# Altium footprint library SparkFun-Boards.PCBLIB: 71 footprints (part 1 of 5)
Each footprint in its own frame and in the unit in brackets; x right, y up, seen from the top. Pads: shape width x height; smd on the part's side, far side on the other; paste and mask are expansions set on the pad; w line width, h text height; cw(c..) or ccw(c..) is an arc to the next point about the centre after c.
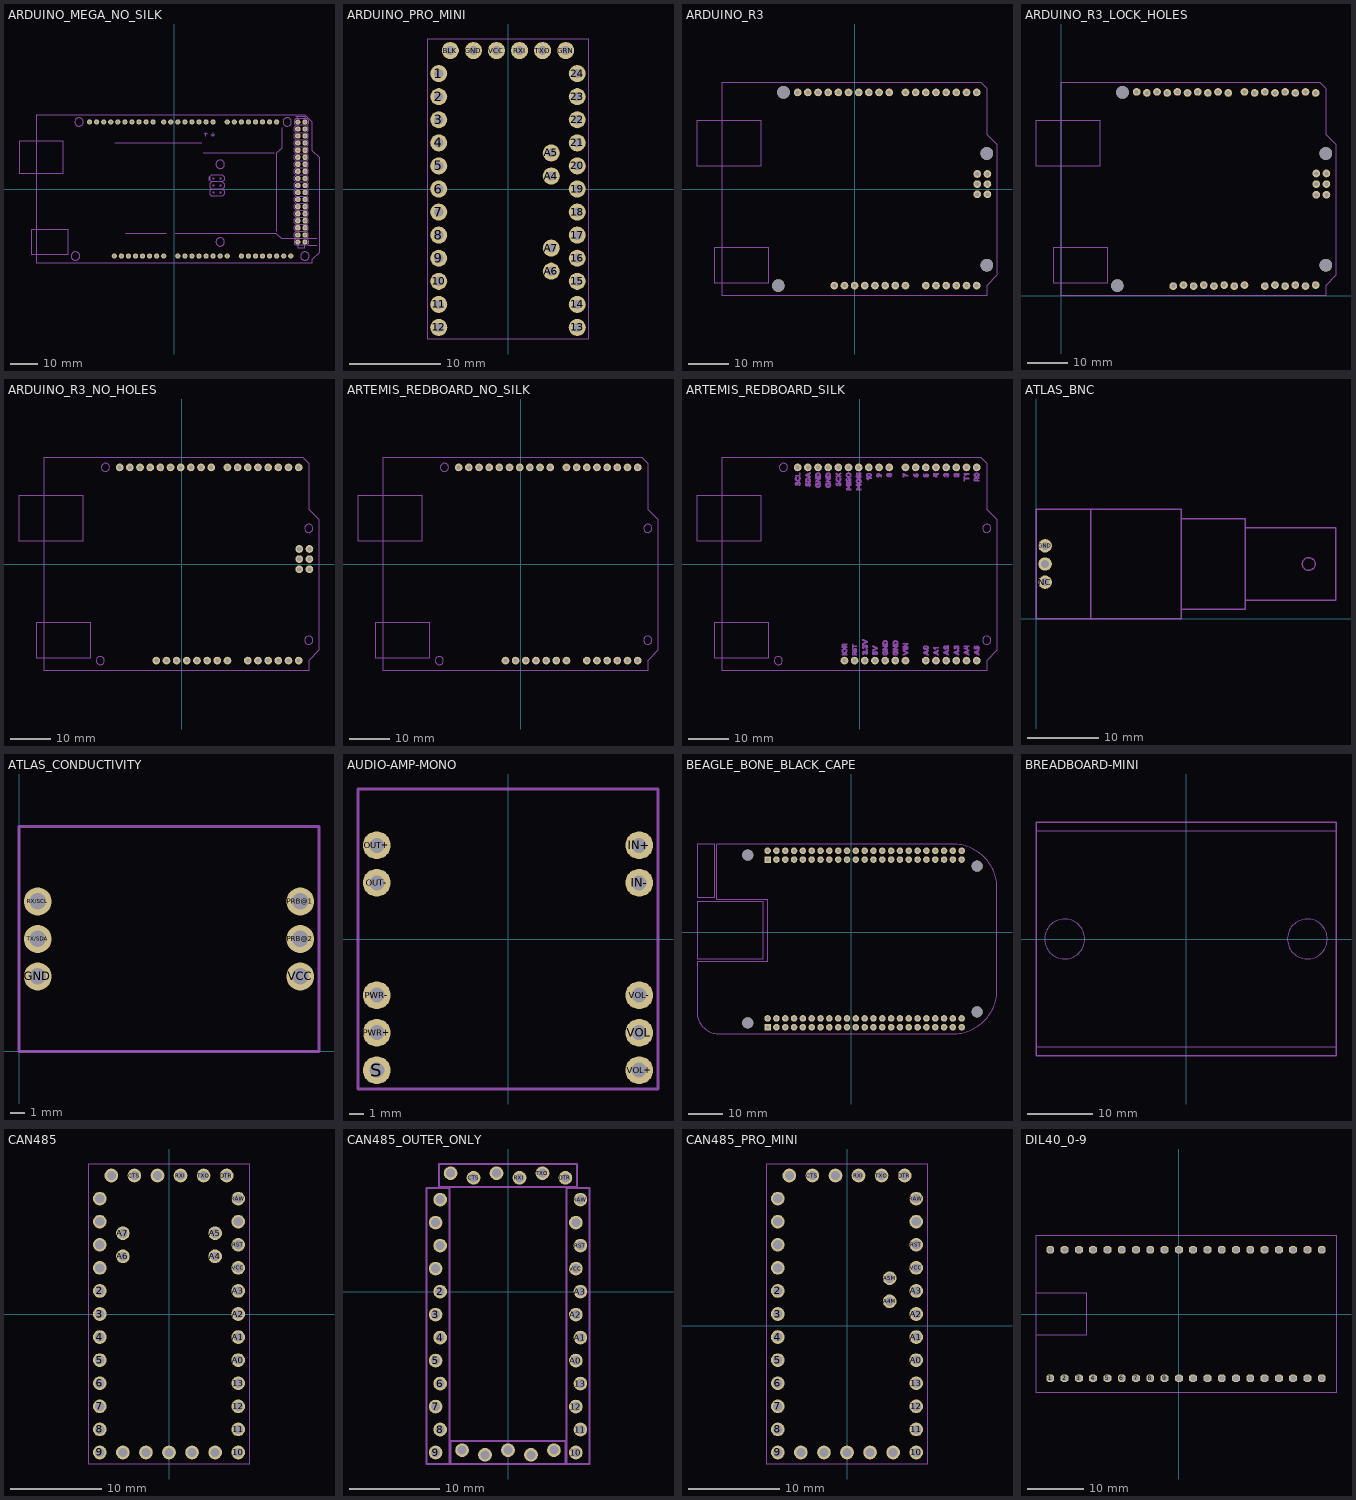
[diagram p0: the footprints below, top view; thin cyan lines are the x and y axes]

## ARDUINO_MEGA_NO_SILK [mil]
pads (86):
  round 74 hole 40: 0(550,950) 1(450,950) 2(350,950) 3(250,950) 3.3V(-550,-950) 4(150,950) 5(50,950) 5V(-450,-950) 5V@1(1750,950) 5V@2(1850,950) 6(-50,950) 7(-150,950) 8(-300,950) 9(-400,950) 10(-500,950) 11(-600,950) 12(-700,950) 13(-800,950) 14(750,950) 15(850,950) 16(950,950) 17(1050,950) 18(1150,950) 19(1250,950) 20(1350,950) 21(1450,950) A0(50,-950) A1(150,-950) A2(250,-950) A3(350,-950) A4(450,-950) A5(550,-950) A6(650,-950) A7(750,-950) A8(950,-950) A9(1050,-950) A10(1150,-950) A11(1250,-950) A12(1350,-950) A13(1450,-950) A14(1550,-950) A15(1650,-950) AREF(-1000,950) GND(-350,-950) GND@1(-250,-950) GND@2(1750,-750) GND@3(1850,-750) GND@4(-900,950) IOREF(-750,-950) NC(-850,-950) RESET(-650,-950) SCL(-1200,950) SDA(-1100,950) VIN(-150,-950)
  oct 74x74 / inner round 68.37 / far side oct 74x74 hole 40: 22(1750,850) 23(1850,850) 24(1750,750) 25(1850,750) 26(1750,650) 27(1850,650) 28(1750,550) 29(1850,550) 30(1750,450) 31(1850,450) 32(1750,350) 33(1850,350) 34(1750,250) 35(1850,250) 36(1750,150) 37(1850,150) 38(1750,50) 39(1850,50) 40(1750,-50) 41(1850,-50) 42(1750,-150) 43(1850,-150) 44(1750,-250) 45(1850,-250) 46(1750,-350) 47(1850,-350) 48(1750,-450) 49(1850,-450) 50(1750,-550) 51(1850,-550) 52(1750,-650) 53(1850,-650)
tDocu:
  drawing of 288 lines, arcs and shapes, not listed
  text "0" at 565,830 h47.6
  text "1" at 465,830 h47.6
  text "2" at 365,830 h47.6
  text "3" at 265,830 h47.6
  text "4" at 165,830 h47.6
  text "5" at 65,830 h47.6
  text "6" at -35,830 h47.6
  text "7" at -135,830 h47.6
  text "8" at -275,830 h47.6
  text "9" at -375,830 h47.6
  text "10" at -475,780 h47.6
  text "11" at -575,780 h47.6
  text "12" at -675,780 h47.6
  text "13" at -775,780 h47.6
  text "14" at 765,795 h47.6
  text "15" at 865,795 h47.6
  text "16" at 965,795 h47.6
  text "17" at 1065,795 h47.6
  text "18" at 1165,795 h47.6
  text "19" at 1265,795 h47.6
  text "20" at 1365,795 h47.6
  text "21" at 1465,795 h47.6
  text "22" at 1581,820 h47.6
  text "24" at 1581,720 h47.6
  text "26" at 1581,620 h47.6
  text "28" at 1581,520 h47.6
  text "30" at 1581,420 h47.6
  text "32" at 1581,320 h47.6
  text "34" at 1581,220 h47.6
  text "36" at 1581,120 h47.6
  text "38" at 1581,20 h47.6
  text "40" at 1581,-80 h47.6
  text "42" at 1581,-180 h47.6
  text "44" at 1581,-280 h47.6
  text "46" at 1581,-380 h47.6
  text "SO" at 1581,-580 h47.6
  text "48" at 1581,-480 h47.6
  text "CK" at 1581,-680 h47.6
  text "31" at 1925,421 h47.6
  text "33" at 1925,321 h47.6
  text "35" at 1925,221 h47.6
  text "37" at 1925,121 h47.6
  text "39" at 1925,21 h47.6
  text "41" at 1925,-79 h47.6
  text "43" at 1925,-179 h47.6
  text "45" at 1925,-279 h47.6
  text "47" at 1925,-379 h47.6
  text "49" at 1925,-479 h47.6
  text "SI" at 1925,-579 h47.6
  text "!CS" at 1925,-679 h47.6
  text "A0" at 80,-869 h47.6
  text "A1" at 170,-869 h47.6
  text "A2" at 280,-869 h47.6
  text "A3" at 380,-869 h47.6
  text "A4" at 480,-869 h47.6
  text "A5" at 575,-869 h47.6
  text "6" at 675,-869 h47.6
  text "A7" at 780,-869 h47.6
  text "A8" at 980,-869 h47.6
  text "A9" at 1080,-869 h47.6
  text "A10" at 1180,-869 h47.6
  text "A11" at 1280,-869 h47.6
  text "A12" at 1380,-869 h47.6
  text "A13" at 1480,-869 h47.6
  text "A14" at 1580,-869 h47.6
  text "A15" at 1675,-869 h47.6
  text "ANALOG IN" at 60,-730 h51
  text "COMMUNICATION" at 430,535 h51
  text "DIGITAL" at 1535,-590 h51
  text "GND" at 1925,-779 h34
  text "TX0" at 465,630 h34
  text "RX0" at 565,630 h34
  text "PWM" at -800,675 h51
  text "TX3" at 765,630 h34
  text "RX3" at 865,630 h34
  text "TX2" at 965,630 h34
  text "RX2" at 1065,630 h34
  text "TX1" at 1165,630 h34
  text "RX1" at 1265,630 h34
  text "SDA" at 1365,630 h34
  text "SCL" at 1465,630 h34
  text "POWER" at -390,-730 h51
  text "RESET" at -630,-869 h34
  text "5V" at -530,-869 h34
  text "5V" at -430,-869 h34
  text "GND" at -330,-869 h34
  text "GND" at -230,-869 h34
  text "Vin" at -130,-869 h34
  text "GND" at -930,880 h47.6
  text "AREF" at -1025,880 h47.6
  text "5V" at 1650,1000 h29.75

## ARDUINO_PRO_MINI [mil]
pads (34):
  round 74 hole 40: 1(-300,500) 2(-300,400) 3(-300,300) 4(-300,200) 5(-300,100) 6(-300,0) 7(-300,-100) 8(-300,-200) 9(-300,-300) 10(-300,-400) 11(-300,-500) 12(-300,-600) 13(300,-600) 14(300,-500) 15(300,-400) 16(300,-300) 17(300,-200) 18(300,-100) 19(300,0) 20(300,100) 21(300,200) 22(300,300) 23(300,400) 24(300,500) A4(187.5,56.25) A5(187.5,156.25) A6(187.5,-356.25) A7(187.5,-256.25) BLK(-250,600) GND(-150,600) GRN(250,600) RXI(50,600) TXO(150,600) VCC(-50,600)
tDocu:
  lines w5: -350,-650 -350,650 350,650 350,-650 -350,-650

## ARDUINO_R3 [mil]
pads (42):
  round 76 hole 40: 3.3V(100,-950) 5V(200,-950) A0(700,-950) A1(800,-950) A2(900,-950) A3(1000,-950) A4(1100,-950) A5(1200,-950) AREF(-360,950) D0(1200,950) D1(1100,950) D2(1000,950) D3(900,950) D4(800,950) D5(700,950) D6(600,950) D7(500,950) D8(340,950) D9(240,950) D10(140,950) D11(40,950) D12(-60,950) D13(-160,950) GND@1(300,-950) GND@2(400,-950) GND@3(-260,950) GND@4(1305.51,-51.97) IOREF(-100,-950) MISO(1205.51,148.03) MOSI(1305.51,48.03) NC(-200,-950) RESET@1(0,-950) RESET@2(1205.51,-51.97) SCK(1205.51,48.03) SCL(-560,950) SDA(-460,950) VCC(1305.51,148.03) VIN(500,-950)
  round 125 hole 125 unplated: MH1(-700,950) MH2(1300,350) MH3(1300,-750) MH4(-750,-950)
tDocu:
  lines w8: -1550,225 -925,225 -925,675 -1550,675 -1550,225 ; -1375,-925 -1375,-575 -850,-575 -850,-925 -1375,-925 ; -1300,-1050 -1300,1050 1240,1050 1300,990 1300,540 1400,440 1400,-850 1300,-950 1300,-1050 -1300,-1050
  text "SCL" at -560,900 h27.2
  text "SDA" at -460,900 h27.2
  text "AREF" at -360,900 h27.2
  text "GND" at -260,900 h27.2
  text "D13" at -160,900 h27.2
  text "D12" at -60,900 h27.2
  text "D11" at 40,900 h27.2
  text "D10" at 140,900 h27.2
  text "D9" at 240,900 h27.2
  text "D8" at 340,900 h27.2
  text "D7" at 500,900 h27.2
  text "D6" at 600,900 h27.2
  text "D5" at 700,900 h27.2
  text "D4" at 800,900 h27.2
  text "D3" at 900,900 h27.2
  text "D2" at 1000,900 h27.2
  text "D0/RXI" at 1200,900 h27.2
  text "D1/TXO" at 1100,900 h27.2
  text "!RESET!" at 0,-900 h27.2
  text "3.3V" at 100,-900 h27.2
  text "5V" at 200,-900 h27.2
  text "GND" at 300,-900 h27.2
  text "GND" at 400,-900 h27.2
  text "VIN" at 500,-900 h27.2
  text "A0" at 700,-900 h27.2
  text "A1" at 800,-900 h27.2
  text "A2" at 900,-900 h27.2
  text "A3" at 1000,-900 h27.2
  text "A4" at 1100,-900 h27.2
  text "A5" at 1200,-900 h27.2
  text "IOREF" at -100,-900 h27.2
  text "MISO" at 1150,150 h27.2
  text "SCK" at 1150,50 h27.2
  text "RST" at 1150,-50 h27.2
  text "GND" at 1350,-50 h27.2
  text "MOSI" at 1350,50 h27.2
  text "5V" at 1350,150 h27.2

## ARDUINO_R3_LOCK_HOLES [mil]
pads (42):
  round 76 hole 40: 3.3V(1400,105) 5V(1500,95) A0(2000,95) A1(2100,105) A2(2200,95) A3(2300,105) A4(2400,95) A5(2500,105) AREF(940,2005) D0(2500,1995) D1(2400,2005) D2(2300,1995) D3(2200,2005) D4(2100,1995) D5(2000,2005) D6(1900,1995) D7(1800,2005) D8(1640,1995) D9(1540,2005) D10(1440,1995) D11(1340,2005) D12(1240,1995) D13(1140,2005) GND@1(1600,105) GND@2(1700,95) GND@3(1040,1995) GND@4(2605.51,993.03) IOREF(1200,105) MISO(2505.51,1203.03) MOSI(2605.51,1098.03) NC(1100,95) RESET@1(1300,95) RESET@2(2505.51,993.03) SCK(2505.51,1098.03) SCL(740,2005) SDA(840,1995) VCC(2605.51,1203.03) VIN(1800,105)
  round 125 hole 125 unplated: MH1(600,2000) MH2(2600,1400) MH3(2600,300) MH4(550,100)
tDocu:
  lines w8: -250,1275 375,1275 375,1725 -250,1725 -250,1275 ; -75,125 -75,475 450,475 450,125 -75,125 ; 0,0 0,2100 2540,2100 2600,2040 2600,1590 2700,1490 2700,200 2600,100 2600,0 0,0
  text "SCL" at 740,1950 h27.2
  text "SDA" at 840,1950 h27.2
  text "AREF" at 940,1950 h27.2
  text "GND" at 1040,1950 h27.2
  text "D13" at 1140,1950 h27.2
  text "D12" at 1240,1950 h27.2
  text "D11" at 1340,1950 h27.2
  text "D10" at 1440,1950 h27.2
  text "D9" at 1540,1950 h27.2
  text "D8" at 1640,1950 h27.2
  text "D7" at 1800,1950 h27.2
  text "D6" at 1900,1950 h27.2
  text "D5" at 2000,1950 h27.2
  text "D4" at 2100,1950 h27.2
  text "D3" at 2200,1950 h27.2
  text "D2" at 2300,1950 h27.2
  text "D0/RXI" at 2500,1950 h27.2
  text "D1/TXO" at 2400,1950 h27.2
  text "!RESET!" at 1300,150 h27.2
  text "3.3V" at 1400,150 h27.2
  text "5V" at 1500,150 h27.2
  text "GND" at 1600,150 h27.2
  text "GND" at 1700,150 h27.2
  text "VIN" at 1800,150 h27.2
  text "A0" at 2000,150 h27.2
  text "A1" at 2100,150 h27.2
  text "A2" at 2200,150 h27.2
  text "A3" at 2300,150 h27.2
  text "A4" at 2400,150 h27.2
  text "A5" at 2500,150 h27.2
  text "IOREF" at 1200,150 h27.2
  text "MISO" at 2450,1200 h27.2
  text "SCK" at 2450,1100 h27.2
  text "RST" at 2450,1000 h27.2
  text "GND" at 2650,1000 h27.2
  text "MOSI" at 2650,1100 h27.2
  text "5V" at 2650,1200 h27.2

## ARDUINO_R3_NO_HOLES [mil]
pads (38):
  round 76 hole 40: 3.3V(50,-950) 5V(150,-950) A0(650,-950) A1(750,-950) A2(850,-950) A3(950,-950) A4(1050,-950) A5(1150,-950) AREF(-410,950) D0(1150,950) D1(1050,950) D2(950,950) D3(850,950) D4(750,950) D5(650,950) D6(550,950) D7(450,950) D8(290,950) D9(190,950) D10(90,950) D11(-10,950) D12(-110,950) D13(-210,950) GND@1(250,-950) GND@2(350,-950) GND@3(-310,950) GND@4(1255.51,-51.97) IOREF(-150,-950) MISO(1155.51,148.03) MOSI(1255.51,48.03) NC(-250,-950) RESET@1(-50,-950) RESET@2(1155.51,-51.97) SCK(1155.51,48.03) SCL(-610,950) SDA(-510,950) VCC(1255.51,148.03) VIN(450,-950)
tDocu:
  circle w5: c-800,-950 r40.31
  circle w5: c1250,-750 r40.31
  circle w5: c1250,350 r40.31
  circle w5: c-750,950 r40.31
  lines w8: -1600,225 -975,225 -975,675 -1600,675 -1600,225 ; -1425,-925 -1425,-575 -900,-575 -900,-925 -1425,-925 ; -1350,-1050 -1350,1050 1190,1050 1250,990 1250,540 1350,440 1350,-850 1250,-950 1250,-1050 -1350,-1050
  text "SCL" at -610,900 h27.2
  text "SDA" at -510,900 h27.2
  text "AREF" at -410,900 h27.2
  text "GND" at -310,900 h27.2
  text "D13" at -210,900 h27.2
  text "D12" at -110,900 h27.2
  text "D11" at -10,900 h27.2
  text "D10" at 90,900 h27.2
  text "D9" at 190,900 h27.2
  text "D8" at 290,900 h27.2
  text "D7" at 450,900 h27.2
  text "D6" at 550,900 h27.2
  text "D5" at 650,900 h27.2
  text "D4" at 750,900 h27.2
  text "D3" at 850,900 h27.2
  text "D2" at 950,900 h27.2
  text "D0/RXI" at 1150,900 h27.2
  text "D1/TXO" at 1050,900 h27.2
  text "!RESET!" at -50,-900 h27.2
  text "3.3V" at 50,-900 h27.2
  text "5V" at 150,-900 h27.2
  text "GND" at 250,-900 h27.2
  text "GND" at 350,-900 h27.2
  text "VIN" at 450,-900 h27.2
  text "A0" at 650,-900 h27.2
  text "A1" at 750,-900 h27.2
  text "A2" at 850,-900 h27.2
  text "A3" at 950,-900 h27.2
  text "A4" at 1050,-900 h27.2
  text "A5" at 1150,-900 h27.2
  text "IOREF" at -150,-900 h27.2
  text "MISO" at 1100,150 h27.2
  text "SCK" at 1100,50 h27.2
  text "RST" at 1100,-50 h27.2
  text "GND" at 1300,-50 h27.2
  text "MOSI" at 1300,50 h27.2
  text "5V" at 1300,150 h27.2

## ARTEMIS_REDBOARD_NO_SILK [mil]
pads (31):
  round 76 hole 40: 3.3V(50,-950) 5V(150,-950) A0(650,-950) A1(750,-950) A2(850,-950) A3(950,-950) A4(1050,-950) A5(1150,-950) D0(1150,950) D1(1050,950) D2(950,950) D3(850,950) D4(750,950) D5(650,950) D6(550,950) D7(450,950) D8(290,950) D9(190,950) D10(90,950) D11(-10,950) D12(-110,950) D13(-210,950) GND@1(250,-950) GND@2(350,-950) GND@3(-310,950) GND@4(-410,950) IOREF(-150,-950) RESET@1(-50,-950) SCL(-610,950) SDA(-510,950) VIN(450,-950)
tDocu:
  circle w5: c-800,-950 r40.31
  circle w5: c1250,-750 r40.31
  circle w5: c1250,350 r40.31
  circle w5: c-750,950 r40.31
  lines w8: -1600,225 -975,225 -975,675 -1600,675 -1600,225 ; -1425,-925 -1425,-575 -900,-575 -900,-925 -1425,-925 ; -1350,-1050 -1350,1050 1190,1050 1250,990 1250,540 1350,440 1350,-850 1250,-950 1250,-1050 -1350,-1050
  text "SCL" at -610,900 h27.2
  text "SDA" at -510,900 h27.2
  text "GND" at -410,900 h27.2
  text "GND" at -310,900 h27.2
  text "D13" at -210,900 h27.2
  text "D12" at -110,900 h27.2
  text "D11" at -10,900 h27.2
  text "D10" at 90,900 h27.2
  text "D9" at 190,900 h27.2
  text "D8" at 290,900 h27.2
  text "D7" at 450,900 h27.2
  text "D6" at 550,900 h27.2
  text "D5" at 650,900 h27.2
  text "D4" at 750,900 h27.2
  text "D3" at 850,900 h27.2
  text "D2" at 950,900 h27.2
  text "D0/RX1" at 1150,900 h27.2
  text "D1/TX1" at 1050,900 h27.2
  text "!RESET!" at -50,-900 h27.2
  text "3.3V" at 50,-900 h27.2
  text "5V" at 150,-900 h27.2
  text "GND" at 250,-900 h27.2
  text "GND" at 350,-900 h27.2
  text "VIN" at 450,-900 h27.2
  text "A0" at 650,-900 h27.2
  text "A1" at 750,-900 h27.2
  text "A2" at 850,-900 h27.2
  text "A3" at 950,-900 h27.2
  text "A4" at 1050,-900 h27.2
  text "A5" at 1150,-900 h27.2
  text "IOREF" at -150,-900 h27.2

## ARTEMIS_REDBOARD_SILK [mil]
pads (31):
  round 76 hole 40: 3.3V(50,-950) 5V(150,-950) A0(650,-950) A1(750,-950) A2(850,-950) A3(950,-950) A4(1050,-950) A5(1150,-950) D0(1150,950) D1(1050,950) D2(950,950) D3(850,950) D4(750,950) D5(650,950) D6(550,950) D7(450,950) D8(290,950) D9(190,950) D10(90,950) D11(-10,950) D12(-110,950) D13(-210,950) GND@1(250,-950) GND@2(350,-950) GND@3(-310,950) GND@4(-410,950) IOREF(-150,-950) RESET@1(-50,-950) SCL(-610,950) SDA(-510,950) VIN(450,-950)
tDocu:
  circle w5: c-800,-950 r40.31
  circle w5: c1250,-750 r40.31
  circle w5: c1250,350 r40.31
  circle w5: c-750,950 r40.31
  lines w8: -1600,225 -975,225 -975,675 -1600,675 -1600,225 ; -1425,-925 -1425,-575 -900,-575 -900,-925 -1425,-925 ; -1350,-1050 -1350,1050 1190,1050 1250,990 1250,540 1350,440 1350,-850 1250,-950 1250,-1050 -1350,-1050
tPlace:
  drawing of 2592 lines, arcs and shapes, not listed

## ATLAS_BNC [mil]
pads (3):
  round 74 hole 44: CENTER(50,300) GND(50,400) NC(50,200)
tDocu:
  circle w8: c1500,300 r35.36
  lines w8: 800,50 800,0 300,0 300,600 800,600 800,550 ; 800,50 800,550 ; 800,50 1150,50 1150,100 ; 800,550 1150,550 1150,500 ; 1150,100 1150,500 ; 1150,100 1650,100 1650,500 1150,500
tPlace:
  lines w8: 0,0 800,0 800,600 0,600 0,0
  text "GND" at 100,400 h42.5
  text "CTR" at 100,300 h42.5
  text "NC" at 100,200 h42.5
  text "ATLAS" at 150,550 h77.5
  text "BNC" at 150,50 h77.5

## ATLAS_CONDUCTIVITY [mil]
pads (6):
  round 74 hole 44: GND(50,200) PRB@1(750,400) PRB@2(750,300) RX/SCL(50,400) TX/SDA(50,300) VCC(750,200)
tPlace:
  lines w8: 0,0 800,0 800,600 0,600 0,0
  text "PRB" at 700,400 h42.5
  text "PRB" at 700,300 h42.5
  text "VCC" at 700,200 h42.5
  text "RX/SCL" at 100,400 h42.5
  text "TX/SDA" at 100,300 h42.5
  text "GND" at 100,200 h42.5
  text "ATLAS" at 400,550 h77.5
  text "CONDUCTIVITY" at 400,50 h77.5

## AUDIO-AMP-MONO [mil]
pads (10):
  round 74 hole 40: IN+(350,250) IN-(350,150) OUT+(-350,250) OUT-(-350,150) PWR+(-350,-250) PWR-(-350,-150) S(-350,-350) VOL(350,-250) VOL+(350,-350) VOL-(350,-150)
tPlace:
  lines w8: -400,-400 400,-400 400,400 -400,400 -400,-400
  text "SparkFun" at -175,75 h77.5
  text "AudioAmp" at -175,0 h77.5
  text "TPA2005D1" at -200,-100 h77.5
  text "OUT" at -375,325 h77.5
  text "IN" at 300,325 h77.5
  text "+" at 250,225 h77.5
  text "-" at 250,125 h77.5
  text "-" at -275,125 h77.5
  text "+" at -275,225 h77.5
  text "PWR" at -375,-100 h77.5
  text "VOL" at 250,-100 h77.5
  text "+" at -275,-275 h77.5
  text "-" at -275,-175 h77.5

## BEAGLE_BONE_BLACK_CAPE [mil]
pads (96):
  round 125 hole 125 unplated: MH1(-1175,-1025) MH2(1425,-900) MH3(1425,750) MH4(-1175,875)
  rect 74x74 / inner round 68.37 / far side rect 74x74 hole 40: P8.1(-950,825) P9.1(-950,-1075)
  round 74 hole 40: P8.2(-950,925) P8.3(-850,825) P8.4(-850,925) P8.5(-750,825) P8.6(-750,925) P8.7(-650,825) P8.8(-650,925) P8.9(-550,825) P8.10(-550,925) P8.11(-450,825) P8.12(-450,925) P8.13(-350,825) P8.14(-350,925) P8.15(-250,825) P8.16(-250,925) P8.17(-150,825) P8.18(-150,925) P8.19(-50,825) P8.20(-50,925) P8.21(50,825) P8.22(50,925) P8.23(150,825) P8.24(150,925) P8.25(250,825) P8.26(250,925) P8.27(350,825) P8.28(350,925) P8.29(450,825) P8.30(450,925) P8.31(550,825) P8.32(550,925) P8.33(650,825) P8.34(650,925) P8.35(750,825) P8.36(750,925) P8.37(850,825) P8.38(850,925) P8.39(950,825) P8.40(950,925) P8.41(1050,825) P8.42(1050,925) P8.43(1150,825) P8.44(1150,925) P8.45(1250,825) P8.46(1250,925) P9.2(-950,-975) P9.3(-850,-1075) P9.4(-850,-975) P9.5(-750,-1075) P9.6(-750,-975) P9.7(-650,-1075) P9.8(-650,-975) P9.9(-550,-1075) P9.10(-550,-975) P9.11(-450,-1075) P9.12(-450,-975) P9.13(-350,-1075) P9.14(-350,-975) P9.15(-250,-1075) P9.16(-250,-975) P9.17(-150,-1075) P9.18(-150,-975) P9.19(-50,-1075) P9.20(-50,-975) P9.21(50,-1075) P9.22(50,-975) P9.23(150,-1075) P9.24(150,-975) P9.25(250,-1075) P9.26(250,-975) P9.27(350,-1075) P9.28(350,-975) P9.29(450,-1075) P9.30(450,-975) P9.31(550,-1075) P9.32(550,-975) P9.33(650,-1075) P9.34(650,-975) P9.35(750,-1075) P9.36(750,-975) P9.37(850,-1075) P9.38(850,-975) P9.39(950,-1075) P9.40(950,-975) P9.41(1050,-1075) P9.42(1050,-975) P9.43(1150,-1075) P9.44(1150,-975) P9.45(1250,-1075) P9.46(1250,-975)
tDocu:
  lines w5: -1750,-900 ccw(c-1500,-900) -1500,-1150 1150,-1150 ccw(c1150,-650) 1650,-650 1650,500 ccw(c1150,500) 1150,1000 -1525,1000 -1525,375 -950,375 -950,-325 -1750,-325 -1750,-900
tPlace:
  text "1" at -1000,825 h42.5
  text "2" at -1000,925 h34
  text "P8" at -1050,875 h42.5
  text "45" at 1350,825 h34
  text "46" at 1350,925 h34
  text "46" at 1350,-975 h34
  text "45" at 1350,-1075 h34
  text "1" at -1000,-1075 h34
  text "2" at -1000,-975 h34
  text "P9" at -1050,-1025 h42.5
bPlace:
  text "P8" at -1050,875 h42.5
  text "P9" at -1050,-1025 h42.5
  text "1" at -1000,825 h42.5
  text "1" at -1000,-1075 h34
  text "2" at -1000,-975 h34
  text "2" at -1000,925 h34
  text "46" at 1350,925 h34
  text "45" at 1350,825 h34
  text "45" at 1350,-1075 h34
  text "46" at 1350,-975 h34
Document:
  lines w5: -1750,-300 -1000,-300 -1000,350 -1750,350 -1750,-300 ; -1750,400 -1550,400 -1550,1000 -1750,1000 -1750,400
  text "Ethernet" at -1450,50 h42.5
  text "LED/Button" at -1650,700 h42.5
  text "Cutout" at -1300,50 h42.5

## BREADBOARD-MINI [mil]
tDocu:
  circle w5: c-728.35,0 r120
  circle w5: c728.35,0 r120
  lines w5: -900,-650 900,-650 900,650 -900,650 -900,-650
tPlace:
  lines w8: -900,-700 -900,700 900,700 900,-700 -900,-700

## CAN485 [mm]
pads (39):
  round 1.508 hole 1: 2(-7.62,2.54) 3(-7.62,0) 4(-7.62,-2.54) 5(-7.62,-5.08) 6(-7.62,-7.62) 7(-7.62,-10.16) 8(-7.62,-12.7) 9(-7.62,-15.24) 10(7.62,-15.24) 11(7.62,-12.7) 12(7.62,-10.16) 13(7.62,-7.62) 485A(-2.54,-15.24) 485B(-5.08,-15.24) A0(7.62,-5.08) A1(7.62,-2.54) A2(7.62,0) A3(7.62,2.54) A4(5.08,6.35) A5(5.08,8.89) A6(-5.08,6.35) A7(-5.08,8.89) CANHI(2.54,-15.24) CANLO(5.08,-15.24) CTS(-3.81,15.24) DTR(6.35,15.24) GND1(-7.62,5.08) GND2(7.62,10.16) GND3(0,-15.24) GND4(-6.35,15.24) RAW(7.62,12.7) RST(7.62,7.62) RST1(-7.62,7.62) RXI(1.27,15.24) RXI1(-7.62,10.16) TXO(3.81,15.24) TXO1(-7.62,12.7) VCC(7.62,5.08) VCC1(-1.27,15.24)
tPlace:
  lines w0.127: -8.89,-16.51 8.89,-16.51 8.89,16.51 -8.89,16.51 -8.89,-16.51

## CAN485_OUTER_ONLY [mil]
pads (35):
  round 59.37 hole 39.37: 2(-295,0) 3(-315,-100) 4(-295,-200) 5(-315,-300) 6(-295,-400) 7(-315,-500) 8(-295,-600) 9(-315,-700) 10(295,-700) 11(315,-600) 12(295,-500) 13(315,-400) 485A(-100,-710) 485B(-200,-690) A0(295,-300) A1(315,-200) A2(295,-100) A3(315,0) CANHI(100,-710) CANLO(200,-690) CTS(-150,495) DTR(250,495) GND1(-315,100) GND2(295,300) GND3(0,-690) GND4(-250,515) RAW(315,400) RST(315,200) RST1(-295,200) RXI(50,495) RXI1(-315,300) TXO(150,515) TXO1(-295,400) VCC(295,100) VCC1(-50,515)
tDocu:
  region: -312.5,412.5 -297.5,412.5 -297.5,387.5 -312.5,387.5
  region: -312.5,312.5 -297.5,312.5 -297.5,287.5 -312.5,287.5
  region: -312.5,212.5 -297.5,212.5 -297.5,187.5 -312.5,187.5
  region: -312.5,112.5 -297.5,112.5 -297.5,87.5 -312.5,87.5
  region: -312.5,12.5 -297.5,12.5 -297.5,-12.5 -312.5,-12.5
  region: -312.5,-87.5 -297.5,-87.5 -297.5,-112.5 -312.5,-112.5
  region: -312.5,-187.5 -297.5,-187.5 -297.5,-212.5 -312.5,-212.5
  region: -312.5,-287.5 -297.5,-287.5 -297.5,-312.5 -312.5,-312.5
  region: -312.5,-387.5 -297.5,-387.5 -297.5,-412.5 -312.5,-412.5
  region: -312.5,-487.5 -297.5,-487.5 -297.5,-512.5 -312.5,-512.5
  region: -312.5,-587.5 -297.5,-587.5 -297.5,-612.5 -312.5,-612.5
  region: -312.5,-687.5 -297.5,-687.5 -297.5,-712.5 -312.5,-712.5
  region: 297.5,412.5 312.5,412.5 312.5,387.5 297.5,387.5
  region: 297.5,312.5 312.5,312.5 312.5,287.5 297.5,287.5
  region: 297.5,212.5 312.5,212.5 312.5,187.5 297.5,187.5
  region: 297.5,112.5 312.5,112.5 312.5,87.5 297.5,87.5
  region: 297.5,12.5 312.5,12.5 312.5,-12.5 297.5,-12.5
  region: 297.5,-87.5 312.5,-87.5 312.5,-112.5 297.5,-112.5
  region: 297.5,-187.5 312.5,-187.5 312.5,-212.5 297.5,-212.5
  region: 297.5,-287.5 312.5,-287.5 312.5,-312.5 297.5,-312.5
  region: 297.5,-387.5 312.5,-387.5 312.5,-412.5 297.5,-412.5
  region: 297.5,-487.5 312.5,-487.5 312.5,-512.5 297.5,-512.5
  region: 297.5,-587.5 312.5,-587.5 312.5,-612.5 297.5,-612.5
  region: 297.5,-687.5 312.5,-687.5 312.5,-712.5 297.5,-712.5
  region: -212.5,-707.5 -212.5,-692.5 -187.5,-692.5 -187.5,-707.5
  region: -112.5,-707.5 -112.5,-692.5 -87.5,-692.5 -87.5,-707.5
  region: -12.5,-707.5 -12.5,-692.5 12.5,-692.5 12.5,-707.5
  region: 87.5,-707.5 87.5,-692.5 112.5,-692.5 112.5,-707.5
  region: 187.5,-707.5 187.5,-692.5 212.5,-692.5 212.5,-707.5
  region: -262.5,497.5 -262.5,512.5 -237.5,512.5 -237.5,497.5
  region: -162.5,497.5 -162.5,512.5 -137.5,512.5 -137.5,497.5
  region: -62.5,497.5 -62.5,512.5 -37.5,512.5 -37.5,497.5
  region: 37.5,497.5 37.5,512.5 62.5,512.5 62.5,497.5
  region: 137.5,497.5 137.5,512.5 162.5,512.5 162.5,497.5
  region: 237.5,497.5 237.5,512.5 262.5,512.5 262.5,497.5
tPlace:
  lines w8: -355,-750 -355,450 -255,450 -255,-750 -355,-750 ; -300,455 -300,555 300,555 300,455 -300,455 ; -250,-750 -250,-650 250,-650 250,-750 -250,-750 ; 255,-750 255,450 355,450 355,-750 255,-750

## CAN485_PRO_MINI [mm]
pads (37):
  round 1.508 hole 1: 2(-7.62,3.81) 3(-7.62,1.27) 4(-7.62,-1.27) 5(-7.62,-3.81) 6(-7.62,-6.35) 7(-7.62,-8.89) 8(-7.62,-11.43) 9(-7.62,-13.97) 10(7.62,-13.97) 11(7.62,-11.43) 12(7.62,-8.89) 13(7.62,-6.35) 485A(-2.54,-13.97) 485B(-5.08,-13.97) A0(7.62,-3.81) A1(7.62,-1.27) A2(7.62,1.27) A3(7.62,3.81) A4M(4.699,2.667) A5M(4.699,5.207) CANHI(2.54,-13.97) CANLO(5.08,-13.97) CTS(-3.81,16.51) DTR(6.35,16.51) GND1(-7.62,6.35) GND2(7.62,11.43) GND3(0,-13.97) GND4(-6.35,16.51) RAW(7.62,13.97) RST(7.62,8.89) RST1(-7.62,8.89) RXI(1.27,16.51) RXI1(-7.62,11.43) TXO(3.81,16.51) TXO1(-7.62,13.97) VCC(7.62,6.35) VCC1(-1.27,16.51)
tPlace:
  lines w0.127: -8.89,-15.24 8.89,-15.24 8.89,17.78 -8.89,17.78 -8.89,-15.24

## DIL40_0-9 [mil]
pads (40):
  oct 55x55 / inner round 50.81 / far side oct 55x55 hole 39.37: 1(-900,-450) 2(-800,-450) 3(-700,-450) 4(-600,-450) 5(-500,-450) 6(-400,-450) 7(-300,-450) 8(-200,-450) 9(-100,-450) 10(0,-450) 11(100,-450) 12(200,-450) 13(300,-450) 14(400,-450) 15(500,-450) 16(600,-450) 17(700,-450) 18(800,-450) 19(900,-450) 20(1000,-450) 21(1000,450) 22(900,450) 23(800,450) 24(700,450) 25(600,450) 26(500,450) 27(400,450) 28(300,450) 29(200,450) 30(100,450) 31(0,450) 32(-100,450) 33(-200,450) 34(-300,450) 35(-400,450) 36(-500,450) 37(-600,450) 38(-700,450) 39(-800,450) 40(-900,450)
tPlace:
  lines w5: -1000,-150 -1000,-550 1100,-550 1100,550 -1000,550 -1000,150 ; -1000,-150 -1000,150 ; -1000,-150 -650,-150 -650,150 -1000,150